# EAGLE library part DCP01XXXXB (library ic)
DCP01xxxxB: DC/DC converter (Burr-Brown) Single input, single output, 1W
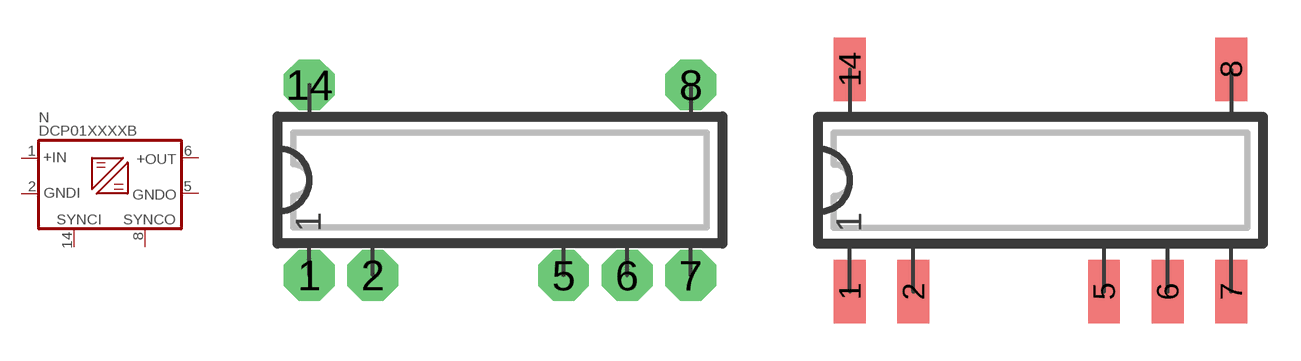
[diagram p100: symbol with the pads of DIP14-7N; footprints DIP14-7N, DIP14-7S]

Designator prefix N

## DCP01XXXXB  [DIP14-7N]
1  +IN  pwr
2  GNDI  pwr
5  GNDO  out
6  +OUT  out
8  SYNCO  in
14  SYNCI  in

## DCP01XXXXBS  [DIP14-7S]
Pads as for DIP14-7N

## Footprint DIP14-7N (pad centres in mm)
DIP-14 Standard IC package, 14 pins, 7 pins used
drill 0.813 pad 2.032 octagon: 1 -7.62,-3.81; 2 -5.08,-3.81; 5 2.54,-3.81; 6 5.08,-3.81; 7 7.62,-3.81; 8 7.62,3.81; 14 -7.62,3.81

## Footprint DIP14-7S (pad centres in mm)
DIP-14, SMD pads Standard IC package, 14 pins, 7 pins used
smd 1.27 x 2.54: 1 -7.62,-4.445; 2 -5.08,-4.445; 5 2.54,-4.445; 6 5.08,-4.445; 7 7.62,-4.445; 8 7.62,4.445; 14 -7.62,4.445